# Altium integrated library Maxim Interface Line Driver.IntLib: 8 symbols
Pins are listed as number, name and electrical type; pins without a type are passive.

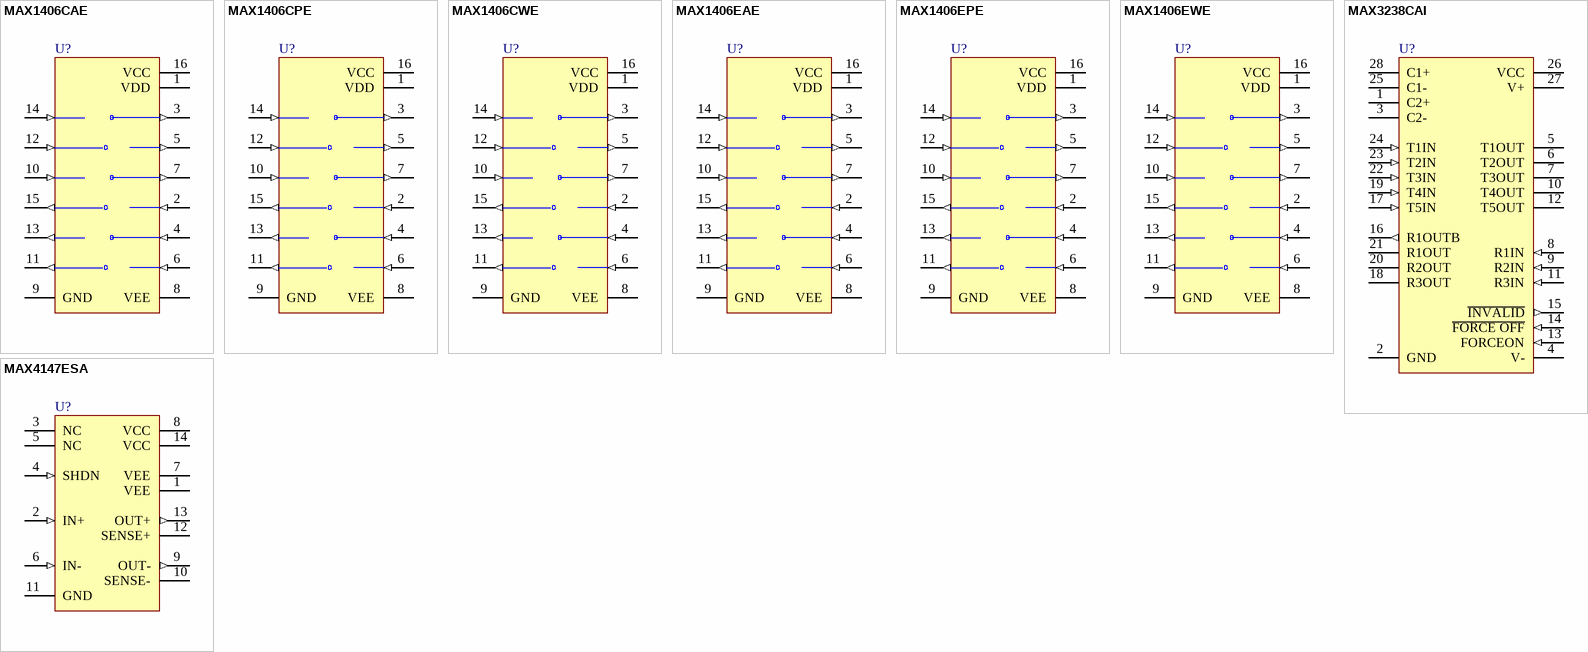
[diagram p0: symbols MAX1406CAE to MAX4147ESA]

## MAX1406CAE
designator U?
±15kV ESD-Protected, EMC-Compliant 230kbps, 3-Tx/3-Rx RS-232 IC; Published: 16-Jan-2001; LatestRevisionDate: 29-May-2009; LatestRevisionNote: IPC-7351 Footprint Added.; DatasheetVersion: Sep-1996; PackageVersion: 1996; PackageReference: SSOP16; Publisher: Altium Limited; PackageDescription: 16-Pin Small Outline Package 0.65 mm Pitch; Code_JEDEC: MO-150-AC; Code_IPC: SOP65P780-16; ComponentLink1Description: Manufacturer Link; ComponentLink1URL: http://www.maxim-ic.com/; ComponentLink2Description: Datasheet; ComponentLink2URL: http://pdfserv.maxim-ic.com/en/ds/MAX1406.pdf
footprint SSOP16_N (SOP, 16-Leads, Body 6.2x5.3mm, Pitch 0.65mm, IPC Medium Density)
footprint SSOP16_L (SOP, 16-Leads, Body 6.2x5.3mm, Pitch 0.65mm, IPC High Density)
footprint SSOP16_M (SOP, 16-Leads, Body 6.2x5.3mm, Pitch 0.65mm, IPC Low Density)
3D model SSOP16 (16-Pin Small Outline Package 0.65 mm Pitch)
pins: 1 VDD (power), 2 R1IN (in), 3 T1OUT (out), 4 R2IN (in), 5 T2OUT (out), 6 R3IN (in), 7 T3OUT (out), 8 VEE (power), 9 GND (power), 10 T3IN (in), 11 R3OUT (out), 12 T2IN (in), 13 R2OUT (out), 14 T1IN (in), 15 R1OUT (out), 16 VCC (power)

## MAX1406CPE
designator U?
±15kV ESD-Protected, EMC-Compliant 230kbps, 3-Tx/3-Rx RS-232 IC; Published: 16-Jan-2001; LatestRevisionDate: 29-May-2009; LatestRevisionNote: Component Body Added.; DatasheetVersion: Sep-1996; PackageVersion: 1997; PackageReference: PE16A; Publisher: Altium Limited; PackageDescription: DIP, 16-Pin, Row Spacing 7.62 mm, Pitch 2.54 mm; Code_JEDEC: MS-001-BB; ComponentLink1Description: Manufacturer Link; ComponentLink1URL: http://www.maxim-ic.com/; ComponentLink2Description: Datasheet; ComponentLink2URL: http://pdfserv.maxim-ic.com/en/ds/MAX1406.pdf
footprint PE16A (DIP, 16-Leads, Row Spacing 7.62mm, Pitch 2.54mm, Body 19.18x6.99mm)
3D model PE16 (DIP, 16-Pin, Row Spacing 7.62 mm, Pitch 2.54 mm)
pins: 1 VDD (power), 2 R1IN (in), 3 T1OUT (out), 4 R2IN (in), 5 T2OUT (out), 6 R3IN (in), 7 T3OUT (out), 8 VEE (power), 9 GND (power), 10 T3IN (in), 11 R3OUT (out), 12 T2IN (in), 13 R2OUT (out), 14 T1IN (in), 15 R1OUT (out), 16 VCC (power)

## MAX1406CWE
designator U?
±15kV ESD-Protected, EMC-Compliant 230kbps, 3-Tx/3-Rx RS-232 IC; Published: 16-Jan-2001; LatestRevisionDate: 13-Apr-2006; LatestRevisionNote: IPC-7351 Footprint Added.; DatasheetVersion: Sep-1996; PackageReference: WSO16; Publisher: Altium Limited; PackageDescription: 16-Pin Small Outline Integrated Circuit 1.27 mm Pitch; Code_JEDEC: MS-013-AA; Code_IPC: SOIC127P1030-16; ComponentLink1Description: Manufacturer Link; ComponentLink1URL: http://www.maxim-ic.com/; ComponentLink2Description: Datasheet; ComponentLink2URL: http://pdfserv.maxim-ic.com/en/ds/MAX1406.pdf
footprint WSO16_N (SOIC, 16-Leads, Body 10.3x7.5mm, Pitch 1.27mm, IPC Medium Density)
footprint WSO16_L (SOIC, 16-Leads, Body 10.3x7.5mm, Pitch 1.27mm, IPC High Density)
footprint WSO16_M (SOIC, 16-Leads, Body 10.3x7.5mm, Pitch 1.27mm, IPC Low Density)
3D model WSO16 (16-Pin Small Outline Integrated Circuit 1.27 mm Pitch)
pins: 1 VDD (power), 2 R1IN (in), 3 T1OUT (out), 4 R2IN (in), 5 T2OUT (out), 6 R3IN (in), 7 T3OUT (out), 8 VEE (power), 9 GND (power), 10 T3IN (in), 11 R3OUT (out), 12 T2IN (in), 13 R2OUT (out), 14 T1IN (in), 15 R1OUT (out), 16 VCC (power)

## MAX1406EAE
designator U?
±15kV ESD-Protected, EMC-Compliant 230kbps, 3-Tx/3-Rx RS-232 IC; Published: 16-Jan-2001; LatestRevisionDate: 29-May-2009; LatestRevisionNote: IPC-7351 Footprint Added.; DatasheetVersion: Sep-1996; PackageVersion: 1996; PackageReference: SSOP16; Publisher: Altium Limited; PackageDescription: 16-Pin Small Outline Package 0.65 mm Pitch; Code_JEDEC: MO-150-AC; Code_IPC: SOP65P780-16; ComponentLink1Description: Manufacturer Link; ComponentLink1URL: http://www.maxim-ic.com/; ComponentLink2Description: Datasheet; ComponentLink2URL: http://pdfserv.maxim-ic.com/en/ds/MAX1406.pdf
footprint SSOP16_N (SOP, 16-Leads, Body 6.2x5.3mm, Pitch 0.65mm, IPC Medium Density)
footprint SSOP16_L (SOP, 16-Leads, Body 6.2x5.3mm, Pitch 0.65mm, IPC High Density)
footprint SSOP16_M (SOP, 16-Leads, Body 6.2x5.3mm, Pitch 0.65mm, IPC Low Density)
3D model SSOP16 (16-Pin Small Outline Package 0.65 mm Pitch)
pins: 1 VDD (power), 2 R1IN (in), 3 T1OUT (out), 4 R2IN (in), 5 T2OUT (out), 6 R3IN (in), 7 T3OUT (out), 8 VEE (power), 9 GND (power), 10 T3IN (in), 11 R3OUT (out), 12 T2IN (in), 13 R2OUT (out), 14 T1IN (in), 15 R1OUT (out), 16 VCC (power)

## MAX1406EPE
designator U?
±15kV ESD-Protected, EMC-Compliant 230kbps, 3-Tx/3-Rx RS-232 IC; Published: 16-Jan-2001; LatestRevisionDate: 29-May-2009; LatestRevisionNote: Component Body Added.; DatasheetVersion: Sep-1996; PackageVersion: 1997; PackageReference: PE16A; Publisher: Altium Limited; PackageDescription: DIP, 16-Pin, Row Spacing 7.62 mm, Pitch 2.54 mm; Code_JEDEC: MS-001-BB; ComponentLink1Description: Manufacturer Link; ComponentLink1URL: http://www.maxim-ic.com/; ComponentLink2Description: Datasheet; ComponentLink2URL: http://pdfserv.maxim-ic.com/en/ds/MAX1406.pdf
footprint PE16A (DIP, 16-Leads, Row Spacing 7.62mm, Pitch 2.54mm, Body 19.18x6.99mm)
3D model PE16 (DIP, 16-Pin, Row Spacing 7.62 mm, Pitch 2.54 mm)
pins: 1 VDD (power), 2 R1IN (in), 3 T1OUT (out), 4 R2IN (in), 5 T2OUT (out), 6 R3IN (in), 7 T3OUT (out), 8 VEE (power), 9 GND (power), 10 T3IN (in), 11 R3OUT (out), 12 T2IN (in), 13 R2OUT (out), 14 T1IN (in), 15 R1OUT (out), 16 VCC (power)

## MAX1406EWE
designator U?
±15kV ESD-Protected, EMC-Compliant 230kbps, 3-Tx/3-Rx RS-232 IC; Published: 16-Jan-2001; LatestRevisionDate: 13-Apr-2006; LatestRevisionNote: IPC-7351 Footprint Added.; DatasheetVersion: Sep-1996; PackageReference: WSO16; Publisher: Altium Limited; PackageDescription: 16-Pin Small Outline Integrated Circuit 1.27 mm Pitch; Code_JEDEC: MS-013-AA; Code_IPC: SOIC127P1030-16; ComponentLink1Description: Manufacturer Link; ComponentLink1URL: http://www.maxim-ic.com/; ComponentLink2Description: Datasheet; ComponentLink2URL: http://pdfserv.maxim-ic.com/en/ds/MAX1406.pdf
footprint WSO16_N (SOIC, 16-Leads, Body 10.3x7.5mm, Pitch 1.27mm, IPC Medium Density)
footprint WSO16_L (SOIC, 16-Leads, Body 10.3x7.5mm, Pitch 1.27mm, IPC High Density)
footprint WSO16_M (SOIC, 16-Leads, Body 10.3x7.5mm, Pitch 1.27mm, IPC Low Density)
3D model WSO16 (16-Pin Small Outline Integrated Circuit 1.27 mm Pitch)
pins: 1 VDD (power), 2 R1IN (in), 3 T1OUT (out), 4 R2IN (in), 5 T2OUT (out), 6 R3IN (in), 7 T3OUT (out), 8 VEE (power), 9 GND (power), 10 T3IN (in), 11 R3OUT (out), 12 T2IN (in), 13 R2OUT (out), 14 T1IN (in), 15 R1OUT (out), 16 VCC (power)

## MAX3238CAI
designator U?
V+3.0 to +5.5V, 1µA, Up to 250kbps, True RS-232 Transceiver with AutoShutdown Plus; Published: 16-Jan-2001; LatestRevisionDate: 29-May-2009; LatestRevisionNote: IPC-7351 Footprint Added.; DatasheetVersion: Sep-1996; PackageVersion: Jul-2000; PackageReference: SSOP28; Publisher: Altium Limited; PackageDescription: 28-Pin Small Outline Package 0.65 mm Pitch; Code_JEDEC: MO-150-AH; Code_IPC: SOP65P780-28; ComponentLink1Description: Manufacturer Link; ComponentLink1URL: http://www.maxim-ic.com/; ComponentLink2Description: Datasheet; ComponentLink2URL: http://pdfserv.maxim-ic.com/en/ds/MAX3238.pdf
footprint SSOP28_N (SOP, 28-Leads, Body 10.2x5.3mm, Pitch 0.65mm, IPC Medium Density)
footprint SSOP28_L (SOP, 28-Leads, Body 10.2x5.3mm, Pitch 0.65mm, IPC High Density)
footprint SSOP28_M (SOP, 28-Leads, Body 10.2x5.3mm, Pitch 0.65mm, IPC Low Density)
3D model SSOP28 (28-Pin Small Outline Package 0.65 mm Pitch)
pins: 1 C2+, 2 GND (power), 3 C2-, 4 V- (power), 5 T1OUT (hiz), 6 T2OUT (hiz), 7 T3OUT (hiz), 8 R1IN (in), 9 R2IN (in), 10 T4OUT (hiz), 11 R3IN (in), 12 T5OUT (hiz), 13 FORCEON (in), 14 ~{FORCE OFF} (in), 15 ~{INVALID} (out), 16 R1OUTB (out), 17 T5IN (in), 18 R3OUT (hiz), 19 T4IN (in), 20 R2OUT (hiz), 21 R1OUT (hiz), 22 T3IN (in), 23 T2IN (in), 24 T1IN (in), 25 C1-, 26 VCC (power), 27 V+ (power), 28 C1+

## MAX4147ESA
designator U?
300MHz, Low-Power, High-Output-Current, Differential Line Driver; Published: 23-Sep-2002; LatestRevisionDate: 13-Apr-2006; LatestRevisionNote: IPC-7351 Footprint Added.; DatasheetVersion: Rev 1; 11/96; PackageReference: NSO14; Publisher: Altium Limited; PackageDescription: 14-Pin Small Outline Integrated Circuit 1.27 mm Pitch; Code_JEDEC: MS-012-AB; Code_IPC: SOIC127P600-14; ComponentLink1Description: Manufacturer Link; ComponentLink1URL: http://www.maxim-ic.com/; ComponentLink2Description: Datasheet; ComponentLink2URL: http://pdfserv.maxim-ic.com/en/ds/MAX4147.pdf
footprint NSO14_N (SOIC, 14-Leads, Body 8.7x3.9mm, Pitch 1.27mm, IPC Medium Density)
footprint NSO14_L (SOIC, 14-Leads, Body 8.7x3.9mm, Pitch 1.27mm, IPC High Density)
footprint NSO14_M (SOIC, 14-Leads, Body 8.7x3.9mm, Pitch 1.27mm, IPC Low Density)
3D model NSO14 (14-Pin Small Outline Integrated Circuit 1.27 mm Pitch)
simulation model MAX4147 (SUBCKT)
pins: 1 VEE (power), 2 IN+ (in), 3 NC, 4 SHDN (in), 5 NC, 6 IN- (in), 7 VEE (power), 8 VCC (power), 9 OUT- (out), 10 SENSE-, 11 GND (power), 12 SENSE+, 13 OUT+ (out), 14 VCC (power)